# Altium integrated library Conventional_transformers.IntLib: 1 symbol
Pins are listed as number, name and electrical type; pins without a type are passive.

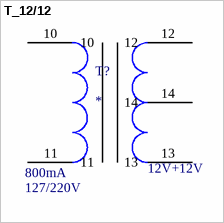
[diagram p0: symbol T_12/12]

## T_12/12
designator T?  Secundary Voltage: 12V+12V  Primary Voltage: 127/220V  Linha: 800mA
Transformador 12 + 12Vac - 800mA; ComponentLink1Description: Fornecedor; ComponentLink1URL: http://www.unitel.ind.br/produtos/transformador-12---12vac---800ma-9fe8b385-aa67-4603-acdb-4ff864d28479
footprint PCBComponent_1
pins: 10, 11, 12, 13, 14